# EAGLE library part SW-3POL4POS (library ryans-common-components)
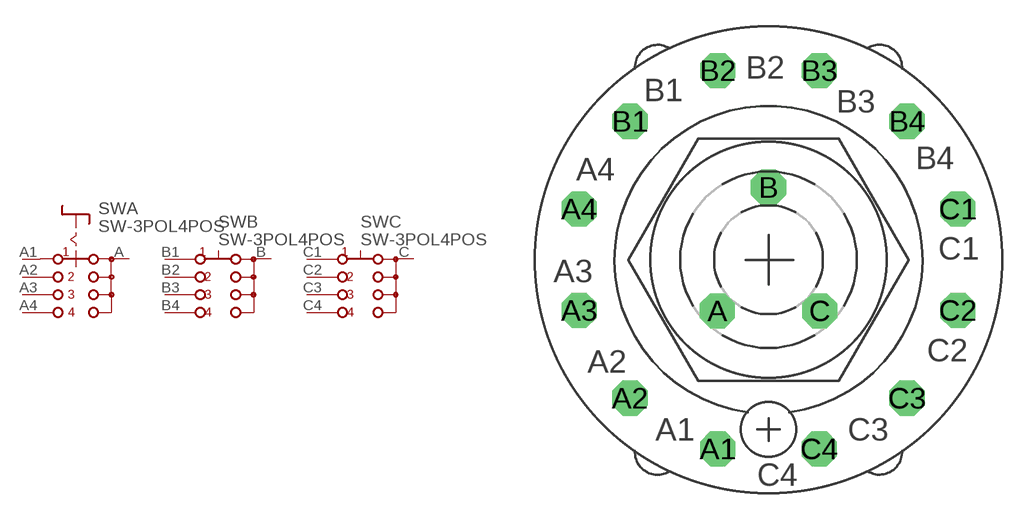
[diagram p15: symbol with the pads of SW-C&K-3POL4POS; footprint SW-C&K-3POL4POS]

Designator prefix SW; gates A=SW-SP4T-FIRST B=SW-SP4T-MID/LAST C=SW-SP4T-MID/LAST

## SW-3POL4POS  [SW-C&K-3POL4POS]
A  A:X  pas
A1  A:1  pas
A2  A:2  pas
A3  A:3  pas
A4  A:4  pas
B  B:X  pas
B1  B:1  pas
B2  B:2  pas
B3  B:3  pas
B4  B:4  pas
C  C:X  pas
C1  C:1  pas
C2  C:2  pas
C3  C:3  pas
C4  C:4  pas

## Footprint SW-C&K-3POL4POS (pad centres in mm)
drill 1.321 octagon: A -2.87,-2.87; A1 -2.845,-10.617; A2 -7.772,-7.772; A3 -10.617,-2.845; A4 -10.617,2.845; B 0,4.059; B1 -7.772,7.772; B2 -2.845,10.617; B3 2.845,10.617; B4 7.772,7.772; C 2.87,-2.87; C1 10.617,2.845; C2 10.617,-2.845; C3 7.772,-7.772; C4 2.845,-10.617